# Altium footprint library ES_Pcb_x.PcbLib: 354 footprints (part 14 of 23)
Each footprint in its own frame and in the unit in brackets; x right, y up, seen from the top. Pads: shape width x height; smd on the part's side, far side on the other; paste and mask are expansions set on the pad; w line width, h text height; cw(c..) or ccw(c..) is an arc to the next point about the centre after c.
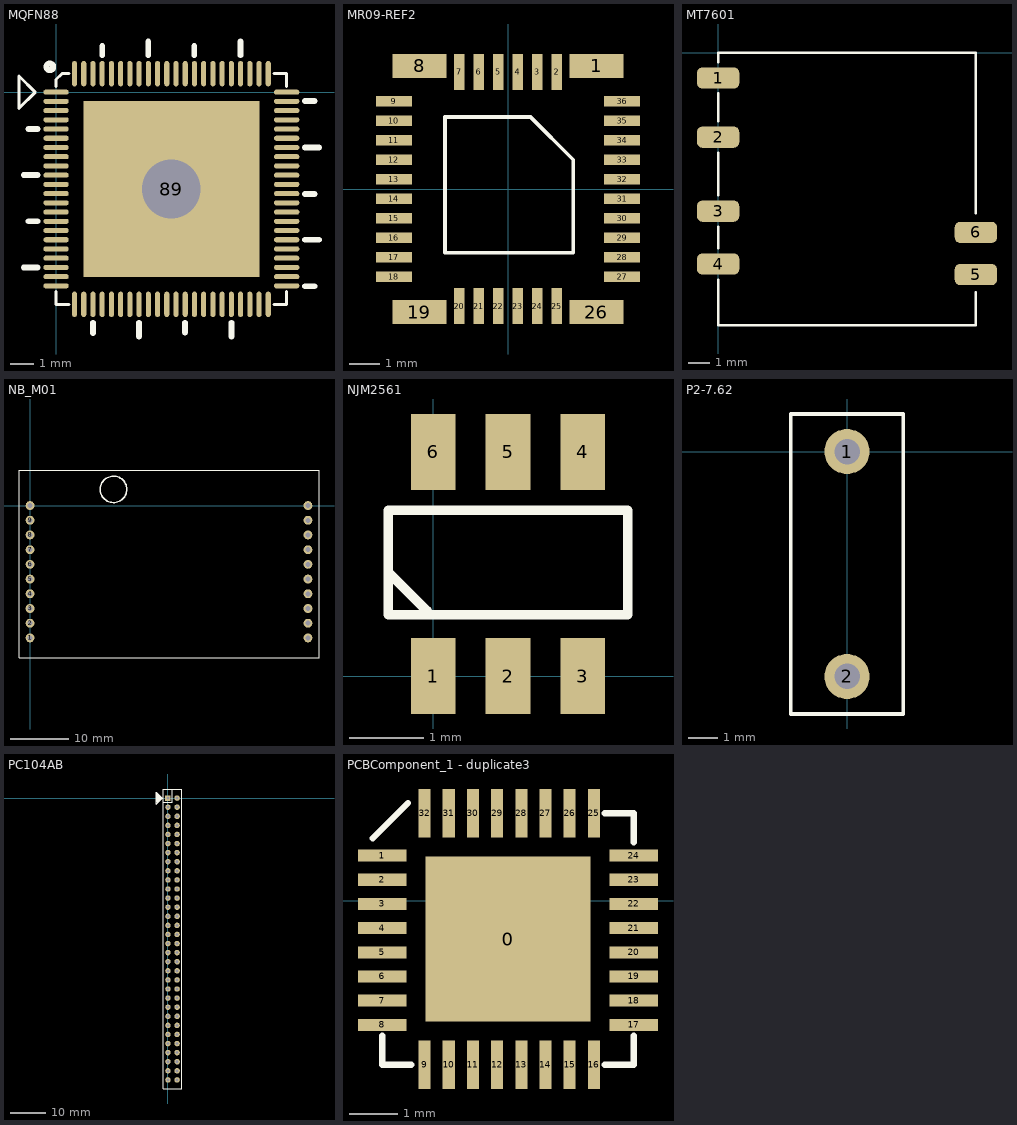
[diagram p13: the footprints below, top view; thin cyan lines are the x and y axes]

## MQFN88 [mm]
pads (89):
  oval 1.1x0.22 smd: 1(0,0) 2(0,-0.4) 3(0,-0.8) 4(0,-1.2) 5(0,-1.6) 6(0,-2) 7(0,-2.4) 8(0,-2.8) 9(0,-3.2) 10(0,-3.6) 11(0,-4) 12(0,-4.4) 13(0,-4.8) 14(0,-5.2) 15(0,-5.6) 16(0,-6) 17(0,-6.4) 18(0,-6.8) 19(0,-7.2) 20(0,-7.6) 21(0,-8) 22(0,-8.4) 45(10,-8.4) 46(10,-8) 47(10,-7.6) 48(10,-7.2) 49(10,-6.8) 50(10,-6.4) 51(10,-6) 52(10,-5.6) 53(10,-5.2) 54(10,-4.8) 55(10,-4.4) 56(10,-4) 57(10,-3.6) 58(10,-3.2) 59(10,-2.8) 60(10,-2.4) 61(10,-2) 62(10,-1.6) 63(10,-1.2) 64(10,-0.8) 65(10,-0.4) 66(10,0)
  oval 0.22x1.1 smd: 23(0.8,-9.2) 24(1.2,-9.2) 25(1.6,-9.2) 26(2,-9.2) 27(2.4,-9.2) 28(2.8,-9.2) 29(3.2,-9.2) 30(3.6,-9.2) 31(4,-9.2) 32(4.4,-9.2) 33(4.8,-9.2) 34(5.2,-9.2) 35(5.6,-9.2) 36(6,-9.2) 37(6.4,-9.2) 38(6.8,-9.2) 39(7.2,-9.2) 40(7.6,-9.2) 41(8,-9.2) 42(8.4,-9.2) 43(8.8,-9.2) 44(9.2,-9.2) 67(9.2,0.8) 68(8.8,0.8) 69(8.4,0.8) 70(8,0.8) 71(7.6,0.8) 72(7.2,0.8) 73(6.8,0.8) 74(6.4,0.8) 75(6,0.8) 76(5.6,0.8) 77(5.2,0.8) 78(4.8,0.8) 79(4.4,0.8) 80(4,0.8) 81(3.6,0.8) 82(3.2,0.8) 83(2.8,0.8) 84(2.4,0.8) 85(2,0.8) 86(1.6,0.8) 87(1.2,0.8) 88(0.8,0.8)
  rect 7.62x7.62 / inner round 4 / far side round 4 hole 2.54: 89(5,-4.2)
Top Overlay:
  circle w0.254: c-0.266,1.097 r0.146
  lines w0.127: 0,-8.645 0,-9.2 0.555,-9.2 ; 0,0.245 0,0.546 0.254,0.8 0.555,0.8 ; 9.445,-9.2 10,-9.2 10,-8.645 ; 9.445,0.8 10,0.8 10,0.245 ; -1.606,-0.702 -1.606,0.698 -0.906,-0.002 -1.606,-0.702
  lines w0.254: -1.4,-7.61 -0.8,-7.61 ; -1.4,-3.6 -0.8,-3.6 ; -1.2,-5.6 -0.8,-5.6 ; -1.2,-1.6 -0.8,-1.6 ; 1.6,-10.448 1.6,-10 ; 2,1.6 2,2 ; 3.6,-10.6 3.6,-10 ; 4,1.6 4,2.2 ; 5.59,-10.418 5.59,-10 ; 5.99,1.6 5.99,2 ; 7.6,-10.6 7.6,-10 ; 8,1.6 8,2.2 ; 10.8,-8.414 11.2,-8.414 ; 10.8,-6.4 11.4,-6.4 ; 10.8,-4.414 11.2,-4.414 ; 10.8,-2.4 11.4,-2.4 ; 10.8,-0.384 11.2,-0.384

## MR09-REF2 [mm]
pads (36):
  rect 1.8x0.8 smd: 1(2.95,4.1) 8(-2.95,4.1) 19(-2.95,-4.1) 26(2.95,-4.1)
  rect 0.35x1.2 smd: 2(1.625,3.9) 3(0.975,3.9) 4(0.325,3.9) 5(-0.325,3.9) 6(-0.975,3.9) 7(-1.625,3.9) 20(-1.625,-3.9) 21(-0.975,-3.9) 22(-0.325,-3.9) 23(0.325,-3.9) 24(0.975,-3.9) 25(1.625,-3.9)
  rect 1.2x0.35 smd: 9(-3.8,2.925) 10(-3.8,2.275) 11(-3.8,1.625) 12(-3.8,0.975) 13(-3.8,0.325) 14(-3.8,-0.325) 15(-3.8,-0.975) 16(-3.8,-1.625) 17(-3.8,-2.275) 18(-3.8,-2.925) 27(3.8,-2.925) 28(3.8,-2.275) 29(3.8,-1.625) 30(3.8,-0.975) 31(3.8,-0.325) 32(3.8,0.325) 33(3.8,0.975) 34(3.8,1.625) 35(3.8,2.275) 36(3.8,2.925)
Top Overlay:
  lines w0.127: -2.1,-2.125 2.175,-2.125 2.175,0.975 0.75,2.4 -2.1,2.4 -2.1,-2.125

## MT7601 [mm]
pads (6):
  rrect50% 2x1 smd: 1(0,-1.201) 2(0,-4) 3(0,-7.501) 4(0,-10) 5(12.192,-10.501) 6(12.192,-8.501)
Top Overlay:
  lines w0.127: 0,-10.75 0,-12.903 12.192,-12.903 12.192,-11.35 ; 0,-9.25 0,-8.25 ; 0,-6.75 0,-4.75 ; 0,-3.25 0,-1.925 ; 0,-0.45 0,0 12.192,0 12.192,-7.6

## NB_M01 [mil]
pads (20):
  round 60 hole 34: 1(0,-900) 2(0,-800) 3(0,-700) 4(0,-600) 5(0,-500) 6(0,-400) 7(0,-300) 8(0,-200) 9(0,-100) 10(0,0) 11(1890,-900) 12(1890,-800) 13(1890,-700) 14(1890,-600) 15(1890,-500) 16(1890,-400) 17(1890,-300) 18(1890,-200) 19(1890,-100) 20(1890,0)
Top Overlay:
  circle w10: c567.79,110 r90.21
  lines w5: -75,-1035 1965,-1035 1965,240 -75,240 -75,-1035

## NJM2561 [mm]
pads (6):
  rect 0.6x1.016 smd: 1(0,0) 2(1,0) 3(2,0) 4(2,3) 5(1,3) 6(0,3)
Top Overlay:
  lines w0.127: -0.584,1.372 -0.084,0.871 ; -0.6,0.822 -0.6,2.219 2.6,2.219 2.6,0.822 -0.6,0.822

## P2-7.62 [mil]
pads (2):
  round 60 hole 34: 1(0,0) 2(0,-300)
Top Overlay:
  lines w5: -75,-350 75,-350 75,50 -75,50 -75,-350

## PC104AB [mil]
pads (64):
  rect 60x60 hole 34: 1(0,0)
  round 60 hole 34: 2(100,0) 3(0,-100) 4(100,-100) 5(0,-200) 6(100,-200) 7(0,-300) 8(100,-300) 9(0,-400) 10(100,-400) 11(0,-500) 12(100,-500) 13(0,-600) 14(100,-600) 15(0,-700) 16(100,-700) 17(0,-800) 18(100,-800) 19(0,-900) 20(100,-900) 21(0,-1000) 22(100,-1000) 23(0,-1100) 24(100,-1100) 25(0,-1200) 26(100,-1200) 27(0,-1300) 28(100,-1300) 29(0,-1400) 30(100,-1400) 31(0,-1500) 32(100,-1500) 33(0,-1600) 34(100,-1600) 35(0,-1700) 36(100,-1700) 37(0,-1800) 38(100,-1800) 39(0,-1900) 40(100,-1900) 41(0,-2000) 42(100,-2000) 43(0,-2100) 44(100,-2100) 45(0,-2200) 46(100,-2200) 47(0,-2300) 48(100,-2300) 49(0,-2400) 50(100,-2400) 51(0,-2500) 52(100,-2500) 53(0,-2600) 54(100,-2600) 55(0,-2700) 56(100,-2700) 57(0,-2800) 58(100,-2800) 59(0,-2900) 60(100,-2900) 61(0,-3000) 62(100,-3000) 63(0,-3100) 64(100,-3100)
Top Overlay:
  lines w10: -127.36,-43.64 -118.14,-52.86 ; -127.36,-33.64 -113.94,-47.06 ; -127.36,-21.64 -109.94,-39.06 ; -127.36,-10.64 -102.36,-35.64 ; -127.36,2.36 -97.94,-27.06 ; -127.36,14.36 -89.94,-23.06 ; -127.36,26.36 -82.94,-18.06 ; -127.36,37.36 -77.94,-12.06 ; -127.36,50.36 -72.94,-4.06 ; -50,-48 49,-48 49,100 ; -127.36,-65.06 -63.36,-1.06 -127.36,62.94 -127.36,-65.06 ; -50,-3200 -50,100 150,100 150,-3200 -50,-3200

## PCBComponent_1 [mm]

## PCBComponent_1 - duplicate [mm]

## PCBComponent_1 - duplicate1 [mm]

## PCBComponent_1 - duplicate2 [mm]

## PCBComponent_1 - duplicate3 [mm]
pads (33):
  rect 3.4x3.4 smd: 0(48.616,-0.787)
  rect 1x0.25 smd: 1(46.016,0.938) 2(46.016,0.438) 3(46.016,-0.062) 4(46.016,-0.562) 5(46.016,-1.062) 6(46.016,-1.562) 7(46.016,-2.062) 8(46.016,-2.562) 17(51.216,-2.562) 18(51.216,-2.062) 19(51.216,-1.562) 20(51.216,-1.062) 21(51.216,-0.562) 22(51.216,-0.062) 23(51.216,0.438) 24(51.216,0.938)
  rect 0.25x1 smd: 9(46.891,-3.387) 10(47.391,-3.387) 11(47.891,-3.387) 12(48.391,-3.387) 13(48.891,-3.387) 14(49.391,-3.387) 15(49.891,-3.387) 16(50.391,-3.387) 25(50.391,1.813) 26(49.891,1.813) 27(49.391,1.813) 28(48.891,1.813) 29(48.391,1.813) 30(47.891,1.813) 31(47.391,1.813) 32(46.891,1.813)
Top Overlay:
  lines w0.127: 45.822,1.295 46.552,2.025 ; 46.016,-2.787 46.016,-3.387 46.616,-3.387 ; 50.616,-3.387 51.216,-3.387 51.216,-2.787 ; 50.616,1.813 51.216,1.813 51.216,1.213

## PCBComponent_1 - duplicate4 [mm]

## PCBComponent_1 - duplicate5 [mm]

## PCBComponent_1 - duplicate6 [mm]

## PCBComponent_1 - duplicate7 [mm]